# EAGLE library part THS5641A (library Lynx components)
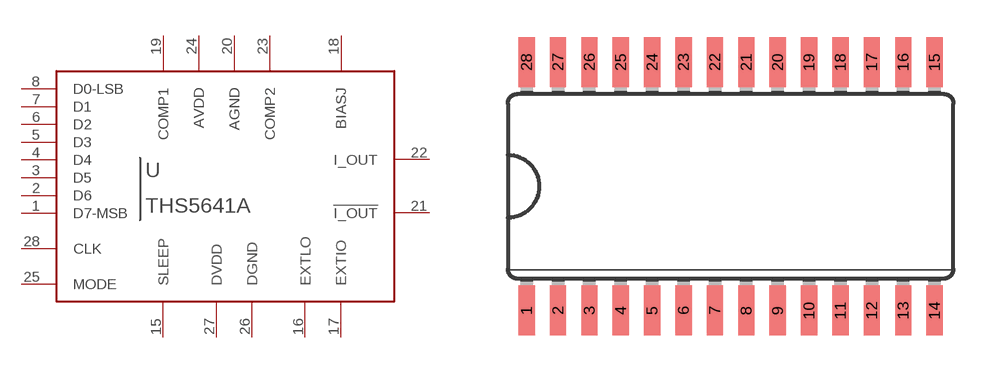
[diagram p4: symbol with the pads of SO28; footprint SO28]

Designator prefix -

## THS5641A  [SO28]
1  D7-MSB
2  D6
3  D5
4  D4
5  D3
6  D2
7  D1
8  D0-LSB
15  SLEEP
16  EXTLO
17  EXTIO
18  BIASJ
19  COMP1
20  AGND
21  !I_OUT!
22  I_OUT
23  COMP2
24  AVDD
25  MODE
26  DGND
27  DVDD
28  CLK

## Footprint SO28 (pad centres in mm)
smd 0.66 x 2.032: 1 -8.255,-5.029; 2 -6.985,-5.029; 3 -5.715,-5.029; 4 -4.445,-5.029; 5 -3.175,-5.029; 6 -1.905,-5.029; 7 -0.635,-5.029; 8 0.635,-5.029; 9 1.905,-5.029; 10 3.175,-5.029; 11 4.445,-5.029; 12 5.715,-5.029; 13 6.985,-5.029; 14 8.255,-5.029; 15 8.255,5.029; 16 6.985,5.029; 17 5.715,5.029; 18 4.445,5.029; 19 3.175,5.029; 20 1.905,5.029; 21 0.635,5.029; 22 -0.635,5.029; 23 -1.905,5.029; 24 -3.175,5.029; 25 -4.445,5.029; 26 -5.715,5.029; 27 -6.985,5.029; 28 -8.255,5.029